# Altium integrated library Speaker-CMS-18138A-SP.IntLib: 1 symbol
Pins are listed as number, name and electrical type; pins without a type are passive.

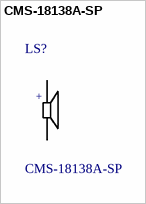
[diagram p0: symbol CMS-18138A-SP]

## CMS-18138A-SP
designator LS?
18 x 13 x 2.5 mm 300 to 1150 Hz 92 dB Spring Lead Low Profile Micro Speaker; MF: CUI; Package: CUI; MP: CMS-18138A-SP; Price: 1.93 USD; Availability: Good; SnapEDA_Link: https://www.snapeda.com/parts/CMS-18138A-SP/CUI/view-part/?ref=snap; Value: *
footprint CUI_CMS-18138A-SP_CMS-18138A-SP(Primary)
pins: N, P
text: +